# Altium schematic symbol library Passives.SchLib: 2 symbols
Pins are listed as number, name and electrical type; pins without a type are passive.

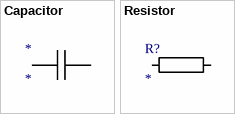
[diagram p0: symbols Capacitor to Resistor]

## Capacitor
designator *
pins: 1, 2

## Resistor
designator R?
pins: 1, 2